# Altium footprint library project.PcbLib: 19 footprints (part 1 of 2)
Each footprint in its own frame and in the unit in brackets; x right, y up, seen from the top. Pads: shape width x height; smd on the part's side, far side on the other; paste and mask are expansions set on the pad; w line width, h text height; cw(c..) or ccw(c..) is an arc to the next point about the centre after c.
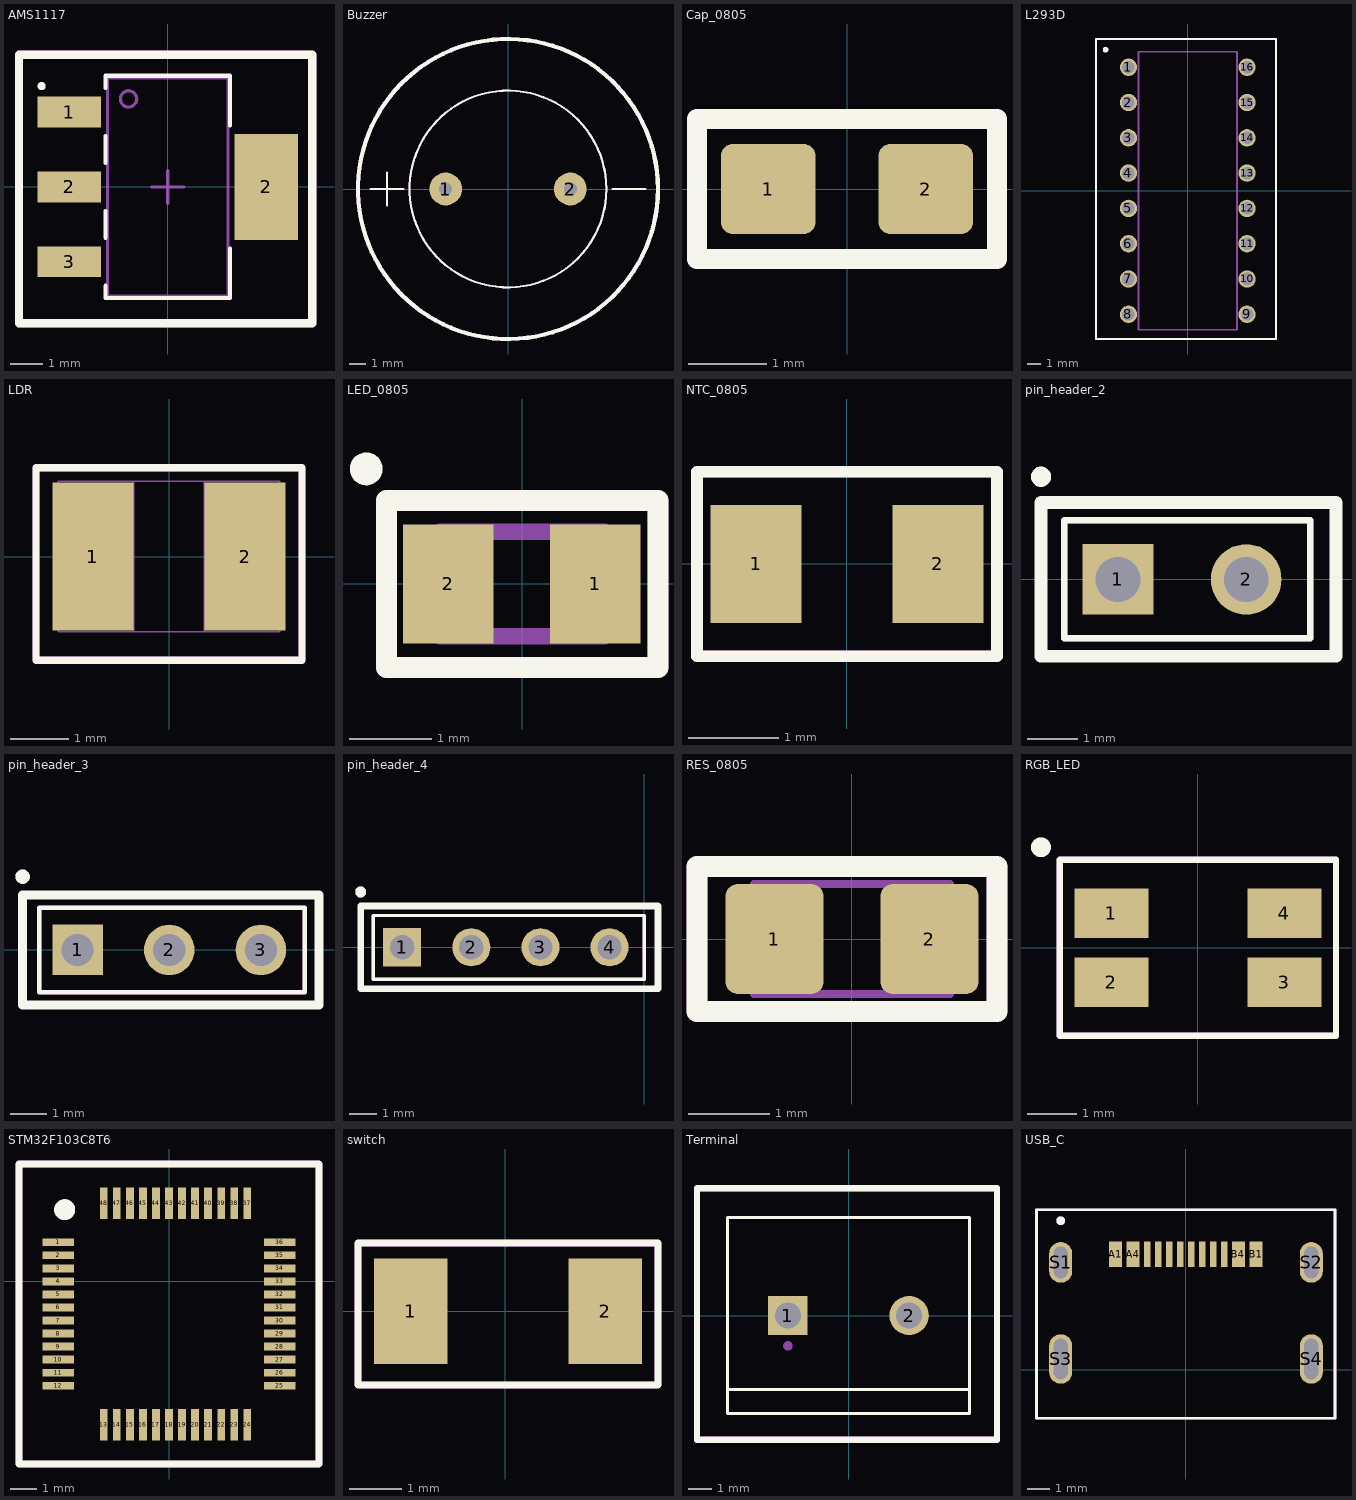
[diagram p0: the footprints below, top view; thin cyan lines are the x and y axes]

## AMS1117 [mm]
height 1.8
pads (4):
  rect 1.95x0.95 smd: 1(-3.025,2.3) 2(-3.025,0) 3(-3.025,-2.3)
  rect 1.95x3.25 smd: 2(3.025,0)
Top Overlay:
  circle w0.125: c-3.875,3.1 r0.062
  lines w0.127: -1.919,-3.039 -1.919,-3.418 1.919,-3.418 1.919,-1.889 ; -1.919,-1.562 -1.919,-0.738 ; -1.919,0.738 -1.919,1.562 ; -1.919,3.039 -1.919,3.418 1.919,3.418 1.919,1.889
  lines w0.254: -4.572,-4.191 -4.572,4.064 3.429,4.064 4.445,4.064 4.445,-4.191 -4.572,-4.191
Top Assembly:
  circle w0.1: c-1.205,2.705 r0.25
  lines w0.1: -1.855,-3.355 1.855,-3.355 1.855,3.355 -1.855,3.355 -1.855,-3.355
Top Component Center:
  lines w0.1: -0.5,0 0.5,0 ; 0,-0.5 0,0.5
Assembly Notes:
  lines w0.254: -4.572,-4.191 -4.572,4.064 4.445,4.064 4.445,-4.191 -4.572,-4.191
  text ".Designator" at -4.318,0.667 h1.52
3D body "AMS1117.step": height 1.8, standoff 0, extent -3.5,-3.253 3.5,3.253

## Buzzer [mm]
pads (2):
  round 2 hole 0.8: 1(-3.8,0) 2(3.8,0)
Top Overlay:
  circle w0.127: c0,0 r6
  circle w0.254: c0,0 r9.144
  lines w0.127: -8.366,0 -6.366,0 ; -7.366,-1 -7.366,1 ; 6.382,0 8.382,0
Top 3D Body:
  circle w0.127: c0,0 r6
  circle w0.254: c0,0 r9.144
  lines w0.127: -8.366,0 -6.366,0 ; -7.366,-1 -7.366,1 ; 6.382,0 8.382,0
  text ".Designator" at -3.302,-2.508 h1.52
3D body "step_temp.STEP": height 9, standoff -6, extent -6,-6 6,5.988

## Cap_0805 [mm]
height 0.6
pads (2):
  rrect25% 1.2x1.14 smd: 1(-1,0) 2(1,0)
Top Overlay:
  lines w0.254: -1.905,-0.889 -1.905,0.889 1.905,0.889 1.905,-0.889 -1.905,-0.889
Top Assembly:
  lines w0.1: -1.905,-0.889 -1.905,0.889 1.905,0.889 1.905,-0.889 -1.905,-0.889
Assembly Notes:
  lines w0.254: -1.905,-0.889 -1.905,0.889 1.905,0.889 1.905,-0.889 -1.905,-0.889
  text ".Designator" at -1.651,-0.25 h0.7
3D body "Cap_0805.step": height 0.6, standoff 0, extent -1,-0.625 1,0.625

## L293D [mm]
height 5.1
pads (16):
  round 1.25 hole 0.9: 1(-4.267,8.89) 2(-4.267,6.35) 3(-4.267,3.81) 4(-4.267,1.27) 5(-4.267,-1.27) 6(-4.267,-3.81) 7(-4.267,-6.35) 8(-4.267,-8.89) 9(4.267,-8.89) 10(4.267,-6.35) 11(4.267,-3.81) 12(4.267,-1.27) 13(4.267,1.27) 14(4.267,3.81) 15(4.267,6.35) 16(4.267,8.89)
Top Overlay:
  circle w0.2: c-5.918,10.16 r0.1
  lines w0.127: -6.604,-10.668 -6.604,10.922 6.35,10.922 6.35,-10.668 -6.604,-10.668
Top 3D Body:
  circle w0.2: c-5.918,10.16 r0.1
  lines w0.127: -3.55,-10 3.55,-10 3.55,10 -3.55,10 -3.55,-10
Assembly Notes:
  lines w0.127: -6.604,-10.668 -6.604,10.922 6.35,10.922 6.35,-10.668 -6.604,-10.668
  text ".Designator" at -3.048,-0.222 h1.52
3D body "step_temp.STEP": height 5.1, standoff -3.3, extent -4.62,-10 4.62,10

## LDR [mil]
pads (2):
  rect 55x100 smd paste+0 mask+0: 1(-51.5,0) 2(51.5,0)
Top Overlay:
  lines w5: -90,-70 -90,60 90,60 90,-70 -90,-70
Top 3D Body:
  lines w1: -75,-51 -75,51 ; -75,-51 75,-51 ; -75,-51 -24,-51 -24,51 -75,51 ; -75,-51 -75,51 ; -75,51 75,51 ; 75,-51 75,51 ; 75,-51 75,51 ; 75,-51 24,-51 24,51 75,51
Assembly Notes:
  lines w5: -90,-70 -90,60 90,60 90,-70 -90,-70
  text ".Designator" at -40,-6.24 h20
3D body "GT36516_JCH.step": height 25.98, standoff 0, extent -75,-50.98 75,50.98

## LED_0805 [mm]
pads (2):
  rect 1.1x1.45 smd: 1(0.889,0) 2(-0.9,0)
Top Overlay:
  circle w0.2: c-1.9,1.4 r0.1
  lines w0.254: -1.651,-1.016 -1.651,1.016 1.651,1.016 1.651,-1.016 -1.651,-1.016
Top 3D Body:
  region: -0.5,-0.6 -1,-0.6 -1,0.6 -0.5,0.6
  region: 1,-0.6 0.5,-0.6 0.5,0.6 1,0.6
  lines w0.2: -1,-0.635 1,-0.635 1,0.635 -1,0.635 -1,-0.635
Assembly Notes:
  lines w0.254: -1.651,-1.016 -1.651,1.016 1.651,1.016 1.651,-1.016 -1.651,-1.016
  text ".Designator" at -1.397,-0.015 h0.6
3D body "step_temp.STEP": height 0.7, standoff 0, extent -1,-0.625 1,0.625

## NTC_0805 [mm]
pads (2):
  rect 1x1.3 smd paste+0 mask+0: 1(-1,0) 2(1,0)
Top Overlay:
  lines w0.127: -1.651,-1.016 1.651,-1.016 1.651,1.016 -1.651,1.016 -1.651,-1.016
Assembly Notes:
  lines w0.127: -1.651,-1.016 1.651,-1.016 1.651,1.016 -1.651,1.016 -1.651,-1.016
  text ".Designator" at -1.016,-0.032 h0.51
3D body "NTCS0805_VIS.step": height 0.94, standoff 0, extent -1.105,-0.698 1.105,0.698

## pin_header_2 [mm]
pads (2):
  rect 1.398x1.398 hole 0.89: 1(-8.89,0)
  round 1.398 hole 0.89: 2(-6.35,0)
Top Overlay:
  circle w0.2: c-10.414,2.032 r0.1
  lines w0.127: -9.957,-1.168 -9.957,1.168 -5.08,1.168 -5.08,-1.168 -9.957,-1.168
  lines w0.254: -10.414,-1.524 -10.414,1.524 -4.572,1.524 -4.572,-1.524 -10.414,-1.524
Top 3D Body:
  circle w0.2: c-10.414,2.032 r0.1
  lines w0.127: -9.957,-1.168 -9.957,1.168 -5.08,1.168 -5.08,-1.168 -9.957,-1.168
3D body "2-Pin Header - Male - 2.54mm.step": height 8.89, standoff -3.05, extent -10.16,-1.27 -5.08,1.27

## pin_header_3 [mm]
pads (3):
  rect 1.398x1.398 hole 0.89: 1(-8.89,0)
  round 1.398 hole 0.89: 2(-6.35,0) 3(-3.81,0)
Top Overlay:
  circle w0.2: c-10.414,2.032 r0.1
  lines w0.127: -9.957,-1.168 -2.6,-1.168 -2.6,1.168 -9.957,1.168 -9.957,-1.168
  lines w0.254: -10.414,-1.524 -2.2,-1.524 -2.2,1.524 -10.414,1.524 -10.414,-1.524
Top 3D Body:
  circle w0.2: c-10.414,2.032 r0.1
  lines w0.127: -9.957,-1.168 -2.6,-1.168 -2.6,1.168 -9.957,1.168 -9.957,-1.168
3D body "3-Pin Header - Male - 2.54mm.step": height 8.89, standoff -3.05, extent -10.16,-1.27 -2.54,1.27

## pin_header_4 [mm]
pads (4):
  rect 1.398x1.398 hole 0.89: 1(-8.89,0)
  round 1.398 hole 0.89: 2(-6.35,0) 3(-3.81,0) 4(-1.27,0)
Top Overlay:
  circle w0.2: c-10.414,2.032 r0.1
  lines w0.127: -9.957,-1.168 -9.957,1.168 0,1.168 0,-1.168 -9.957,-1.168
  lines w0.254: -10.414,-1.524 0.508,-1.524 0.508,1.524 -10.414,1.524 -10.414,-1.524
Top 3D Body:
  circle w0.2: c-10.414,2.032 r0.1
  lines w0.127: -9.957,-1.168 -9.957,1.168 0,1.168 0,-1.168 -9.957,-1.168
3D body "4-Pin Header - Male - 2.54mm.step": height 8.89, standoff -3.05, extent -10.16,-1.27 0,1.27

## RES_0805 [mm]
height 0.6
pads (2):
  rrect25% 1.2x1.35 smd: 1(-0.95,0) 2(0.95,0)
Top Overlay:
  lines w0.254: -1.9,-0.889 1.778,-0.889 1.778,0.889 -1.9,0.889 -1.9,-0.889
Top Assembly:
  lines w0.1: -1.2,-0.675 1.2,-0.675 1.2,0.675 -1.2,0.675 -1.2,-0.675
Assembly Notes:
  lines w0.254: -1.778,0.889 1.778,0.889 ; 1.778,0.889 -1.9,0.889 -1.9,-0.889 1.778,-0.889 1.778,0.889
  text ".Designator" at -1.651,-0.123 h0.7
3D body "RES0805.step": height 0.6, standoff 0, extent -1.075,-0.625 1.075,0.625

## RGB_LED [mm]
pads (4):
  rect 1.5x1 smd: 1(-1.75,0.7) 2(-1.75,-0.7) 3(1.75,-0.7) 4(1.75,0.7)
Top Overlay:
  circle w0.2: c-3.175,2.032 r0.1
  lines w0.127: -2.794,-1.778 2.794,-1.778 2.794,1.778 -2.794,1.778 -2.794,-1.778
Top 3D Body:
  circle w0.2: c-3.175,2.032 r0.1
Assembly Notes:
  lines w0.127: -2.794,-1.778 2.794,-1.778 2.794,1.778 -2.794,1.778 -2.794,-1.778
  text ".Designator" at -1.524,-0.104 h0.8
3D body "HSMF-C118--3DModel-STEP-510211.STEP": height 1.1, standoff 0, extent -1.6,-1.35 1.6,1.35

## STM32F103C8T6 [mm]
pads (48):
  rect 1.2x0.3 smd paste+0 mask+0.05: 1(-4.25,1.5) 2(-4.25,1) 3(-4.25,0.5) 4(-4.25,0) 5(-4.25,-0.5) 6(-4.25,-1) 7(-4.25,-1.5) 8(-4.25,-2) 9(-4.25,-2.5) 10(-4.25,-3) 11(-4.25,-3.5) 12(-4.25,-4) 25(4.25,-4) 26(4.25,-3.5) 27(4.25,-3) 28(4.25,-2.5) 29(4.25,-2) 30(4.25,-1.5) 31(4.25,-1) 32(4.25,-0.5) 33(4.25,0) 34(4.25,0.5) 35(4.25,1) 36(4.25,1.5)
  rect 0.3x1.2 smd paste+0 mask+0.05: 13(-2.5,-5.5) 14(-2,-5.5) 15(-1.5,-5.5) 16(-1,-5.5) 17(-0.5,-5.5) 18(0,-5.5) 19(0.5,-5.5) 20(1,-5.5) 21(1.5,-5.5) 22(2,-5.5) 23(2.5,-5.5) 24(3,-5.5) 37(3,3) 38(2.5,3) 39(2,3) 40(1.5,3) 41(1,3) 42(0.5,3) 43(0,3) 44(-0.5,3) 45(-1,3) 46(-1.5,3) 47(-2,3) 48(-2.5,3)
Top Overlay:
  circle w0.4: c-4,2.75 r0.2
  lines w0.254: -5.75,-7 5.75,-7 5.75,4.5 -5.75,4.5 -5.75,-7
Assembly Notes:
  lines w0.254: -5.75,-7 5.75,-7 5.75,4.5 -5.75,4.5 -5.75,-7
  text ".Designator" at -3.4,-1.914 h1.52
3D body "step_temp.STEP": height 1.6, standoff 0, extent -4.25,-5.75 4.75,3.25

## switch [mm]
pads (2):
  rect 1.4x2 smd paste+0 mask+0.05: 1(-1.8,0) 2(1.9,0)
Top Overlay:
  lines w0.127: -2.8,-1.4 2.9,-1.4 2.9,1.3 -2.8,1.3 -2.8,-1.4
Assembly Notes:
  lines w0.127: -2.8,-1.4 2.9,-1.4 2.9,1.3 -2.8,1.3 -2.8,-1.4
  text ".Designator" at -2.3,-0.112 h1
3D body "EVP-AWCD4A--3DModel-STEP-418109.STEP": height 0.7, standoff 0, extent -1.75,-1.1 1.75,1.1

## Terminal [mm]
pads (2):
  rect 1.65x1.65 hole 1.1: 1(-2.54,0)
  round 1.65 hole 1.1: 2(2.54,0)
Top Overlay:
  lines w0.127: -5.08,-3.1 5.08,-3.1 ; -5.08,-3.1 -5.08,4.1 5.08,4.1 5.08,-3.1 ; -5.08,-3.1 -5.08,-4.1 5.08,-4.1 5.08,-3.1
  lines w0.254: -6.35,-5.207 6.223,-5.207 6.223,5.334 5.588,5.334 -6.35,5.334 -6.35,-5.207
Top 3D Body:
  circle w0.2: c-2.54,-1.27 r0.1
  lines w0.127: -5.08,-4.1 -5.08,4.1 5.08,4.1 5.08,-4.1 -5.08,-4.1
Assembly Notes:
  lines w0.254: -6.35,-5.207 6.223,-5.207 6.223,5.334 -6.223,5.334 -6.35,5.207 -6.35,-5.207
  text ".Designator" at -3.429,0.762 h1.52
3D body "step_temp.STEP": height 10, standoff -3.5, extent -5.68,-4.1 5.08,4.1

## USB_C [mm]
height 1.58
pads (16):
  rect 0.6x1.15 smd: A1(-3.2,5.275) A4(-2.4,5.275) B1(3.2,5.275) B4(2.4,5.275)
  rect 0.3x1.15 smd: A5(-1.25,5.275) A6(-0.25,5.275) A7(0.25,5.275) A8(1.25,5.275) B5(1.75,5.275) B6(0.75,5.275) B7(-0.75,5.275) B8(-1.75,5.275)
  oval 1.05x1.85 hole 0.65 slot 1.45 at 90 deg: S1(-5.7,4.9) S2(5.72,4.9)
  oval 1.05x2.25 hole 0.65 slot 1.85 at 90 deg: S3(-5.7,0.5) S4(5.72,0.5)
Top Overlay:
  circle w0.2: c-5.7,6.8 r0.1
  lines w0.127: -6.8,-2.2 6.8,-2.2 6.8,7.3 -6.8,7.3 -6.8,-2.2
Top Solder:
  circle w0.6: c2.8,3.7 r0.3
  circle w0.6: c-2.8,3.7 r0.3
Top 3D Body:
  circle w0.2: c-5.7,6.8 r0.1
Assembly Notes:
  lines w0.127: -6.8,-2.2 6.8,-2.2 6.8,7.3 -6.8,7.3 -6.8,-2.2
3D body "step_temp.STEP": height 1.58, standoff -1.58, extent -5.77,-1.35 5.77,6.2